# EAGLE library part MAX3380EEUP+ (library RescueRunner)
Dual Transmitter/Receiver RS-232 Source: Datasheet <http://uk.rs-online.com/web/p/products/7329452P>
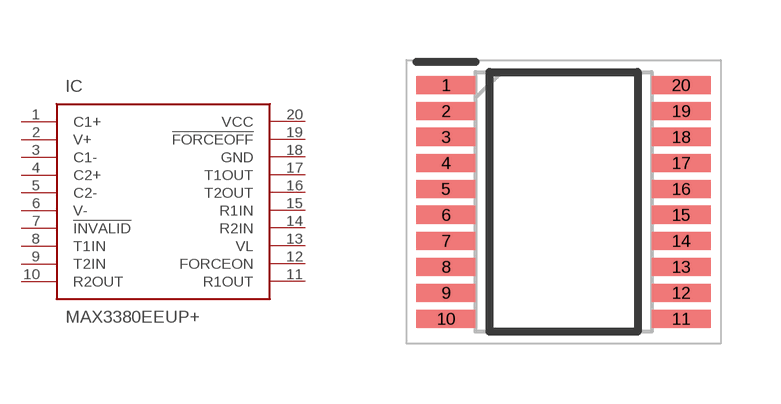
[diagram p0: symbol with the pads of SOP65P640X110-20N; footprint SOP65P640X110-20N]

Designator prefix IC

## MAX3380EEUP+ (DESCRIPTION: Dual Transmitter/Receiver RS-232; HEIGHT: 1.1mm; MANUFACTURER_NAME: Maxim Integrated; MANUFACTURER_PART_NUMBER: MAX3380EEUP+; RS_PART_NUMBER: 7329452P; RS_PRICE-STOCK: http://uk.rs-online.com/web/p/products/7329452P)  [SOP65P640X110-20N]
1  C1+
2  V+
3  C1-
4  C2+
5  C2-
6  V-
7  !INVALID
8  T1IN
9  T2IN
10  R2OUT
11  R1OUT
12  FORCEON
13  VL
14  R2IN
15  R1IN
16  T2OUT
17  T1OUT
18  GND
19  !FORCEOFF
20  VCC

## Footprint SOP65P640X110-20N (pad centres in mm)
MAX3380EEUP+
smd 1.475 x 0.45: 1 -2.938,2.925; 2 -2.938,2.275; 3 -2.938,1.625; 4 -2.938,0.975; 5 -2.938,0.325; 6 -2.938,-0.325; 7 -2.938,-0.975; 8 -2.938,-1.625; 9 -2.938,-2.275; 10 -2.938,-2.925; 11 2.938,-2.925; 12 2.938,-2.275; 13 2.938,-1.625; 14 2.938,-0.975; 15 2.938,-0.325; 16 2.938,0.325; 17 2.938,0.975; 18 2.938,1.625; 19 2.938,2.275; 20 2.938,2.925